# Altium footprint library MSXS-08PFFR-SF7002.PcbLib: 1 footprints
Each footprint in its own frame and in the unit in brackets; x right, y up, seen from the top. Pads: shape width x height; smd on the part's side, far side on the other; paste and mask are expansions set on the pad; w line width, h text height; cw(c..) or ccw(c..) is an arc to the next point about the centre after c.
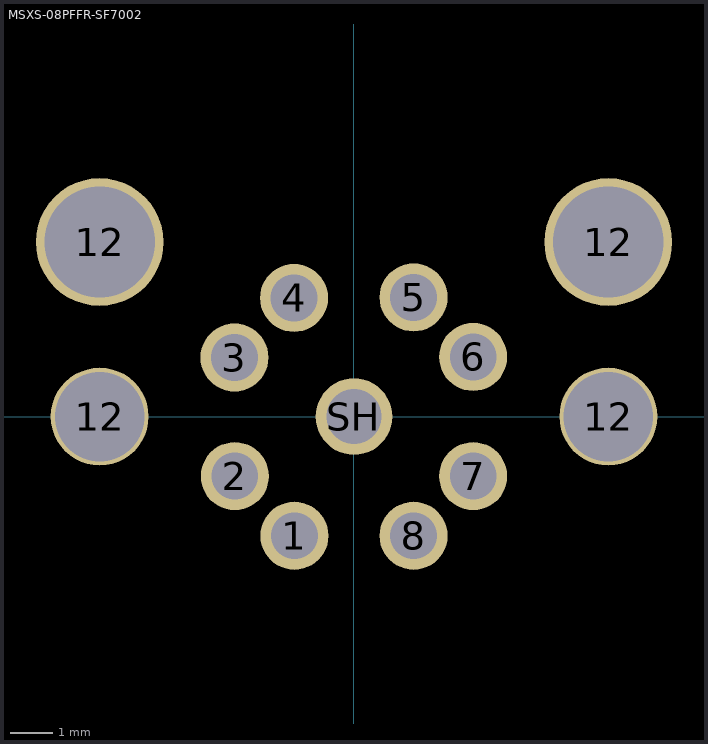
[diagram p0: the footprint, top view; thin cyan lines are the x and y axes]

## MSXS-08PFFR-SF7002 [mm]
pads (13):
  round 1.6 hole 1.1 mask+0.05: 1(-1.4,-2.8) 2(-2.8,-1.4) 3(-2.809,1.387) 4(-1.409,2.787) 5(1.4,2.8) 6(2.8,1.4) 7(2.8,-1.4) 8(1.4,-2.8)
  round 2.3 hole 2.1 mask+0.05: 12(-5.975,0) 12(5.975,0)
  round 3 hole 2.6 mask+0.05: 12(-5.975,4.1) 12(5.975,4.1)
  round 1.8 hole 1.3 mask+0.05: SH(0,0)
3D body "msxs-08pffr-sf7002.stp": height 17.57, standoff -4.73, extent -10.267,-23.277 10.267,5.623